# Altium footprint library Filter components.PcbLib: 12 footprints
Each footprint in its own frame and in the unit in brackets; x right, y up, seen from the top. Pads: shape width x height; smd on the part's side, far side on the other; paste and mask are expansions set on the pad; w line width, h text height; cw(c..) or ccw(c..) is an arc to the next point about the centre after c.
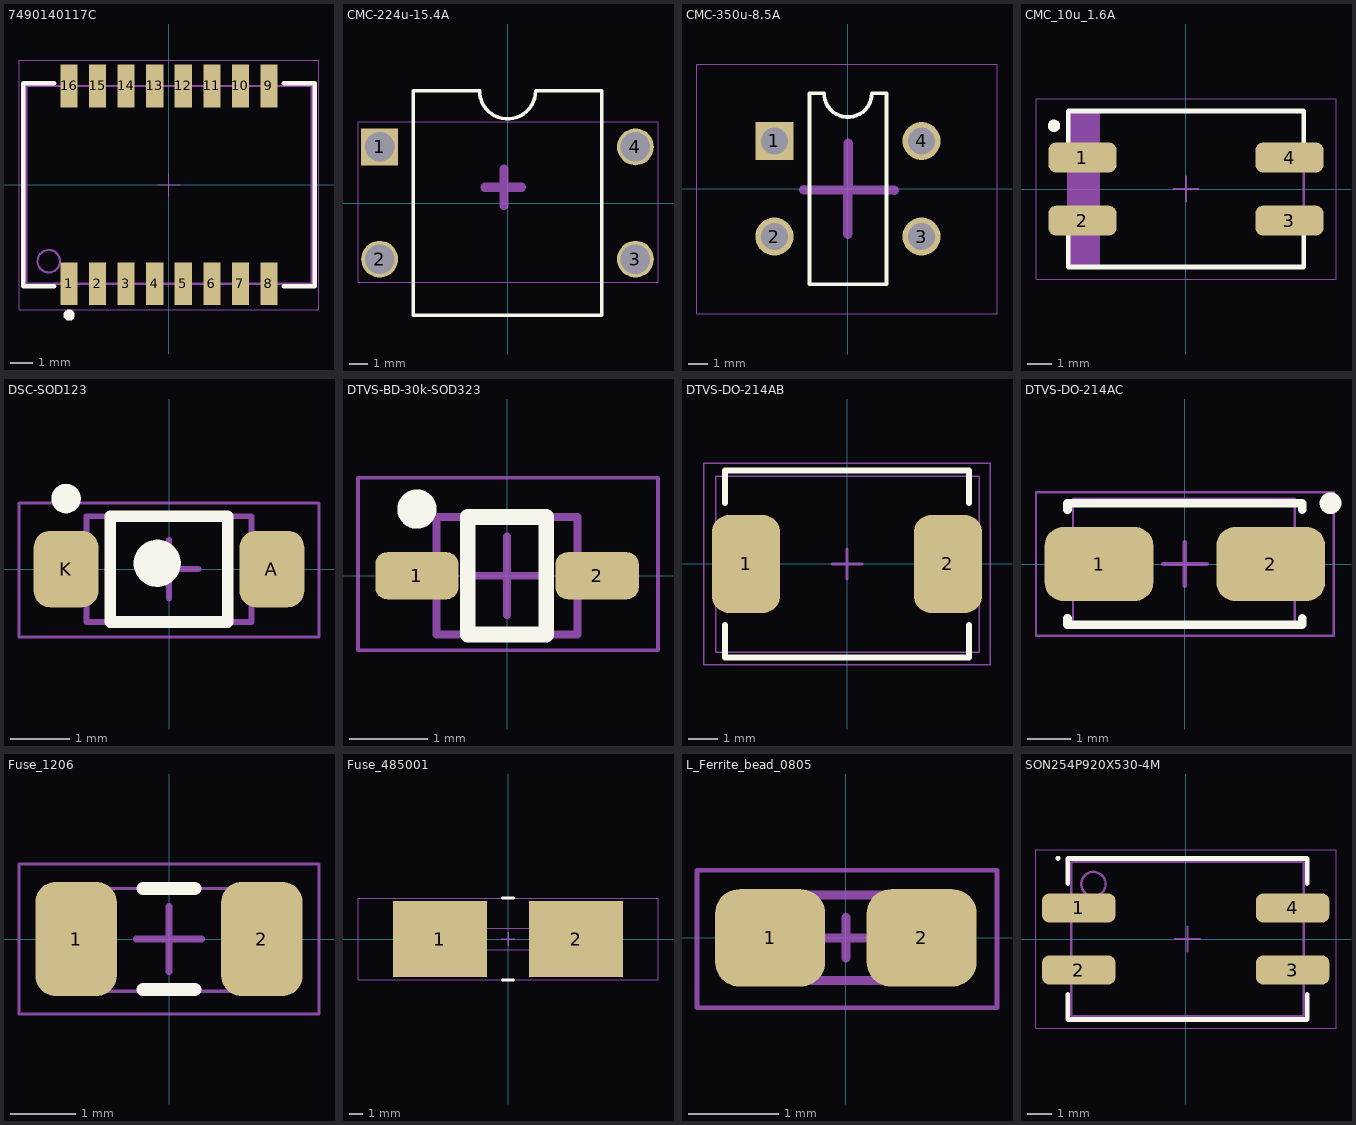
[diagram p0: the footprints below, top view; thin cyan lines are the x and y axes]

## 7490140117C [mm] "SMD LAN Transformers, body 12.7x8.8mm, 16-Leads"
height 6
pads (16):
  rect 0.76x1.9 smd: 1(-4.445,-4.4) 2(-3.175,-4.4) 3(-1.905,-4.4) 4(-0.635,-4.4) 5(0.635,-4.4) 6(1.905,-4.4) 7(3.175,-4.4) 8(4.445,-4.4) 9(4.445,4.4) 10(3.175,4.4) 11(1.905,4.4) 12(0.635,4.4) 13(-0.635,4.4) 14(-1.905,4.4) 15(-3.175,4.4) 16(-4.445,4.4)
Top Overlay:
  circle w0.25: c-4.445,-5.8 r0.125
  lines w0.2: -5.1,-4.525 -6.475,-4.525 -6.475,4.525 -5.1,4.525 ; 5.1,-4.525 6.475,-4.525 6.475,4.525 5.1,4.525
Top Courtyard:
  lines w0.05: -0.5,0 0.5,0 ; 0,-0.5 0,0.5 ; -6.675,-5.55 6.675,-5.55 6.675,5.55 -6.675,5.55 -6.675,-5.55
Top Component Outline:
  circle w0.1: c-5.35,-3.4 r0.5
  lines w0.1: -6.35,-4.4 -6.35,4.4 6.35,4.4 6.35,-4.4 -6.35,-4.4
Top Designator:
  text ".Designator" at -7.498,-0.5 h1.5
3D body "7490140117C.stp": height 5.8, standoff 0, extent -6.35,-4.7 6.35,4.7

## CMC-224u-15.4A [mm]
pads (4):
  rect 2x2 hole 1.6: 1(-6.95,3.05)
  round 2 hole 1.6: 2(-6.95,-3.05) 3(6.95,-3.05) 4(6.95,3.05)
Top Overlay:
  lines w0.2: -5.115,-6.1 -5.115,6.1 -1.525,6.1 ccw(c0,6.1) 1.525,6.1 5.115,6.1 5.115,-6.1 -5.115,-6.1
Top Component Outline:
  lines w0.05: -8.125,-4.3 8.175,-4.3 8.175,4.425 -8.125,4.425 -8.125,-4.3
  lines w0.5: -1.221,0.863 0.754,0.863 ; -0.2,-0.125 -0.2,1.85
  text "'.Designator'" at -3.6,-2.792 h0.7
3D body "TCK-087.stp": height 0.1, standoff -5, extent -7.744,-3.848 7.75,3.848

## CMC-350u-8.5A [mm]
pads (4):
  rect 2x2 hole 1.4: 1(-3.85,2.5)
  round 2 hole 1.4: 2(-3.85,-2.5) 3(3.85,-2.5) 4(3.85,2.5)
Top Overlay:
  lines w0.2: -2.015,-5 2.015,-5 2.015,5 1.25,5 cw(c0,5) -1.25,5 -2.015,5 -2.015,-5
Top Component Outline:
  lines w0.05: -7.9,-6.55 7.8,-6.55 7.8,6.525 -7.9,6.525 -7.9,-6.55
  lines w0.5: -2.317,-0.058 2.433,-0.083 ; 0,-2.375 0.025,2.375
  text "'.Designator'" at -4.275,-5.642 h0.7
3D body "7448229004.stp": height 19.91, standoff -3.49, extent -7.859,-6.5 7.86,6.5

## CMC_10u_1.6A [mm] "Molded Inductor, 2-Leads, Body 9,20x6,00mm, IPC Low Density"
height 5.3
pads (4):
  rrect50% 2.75x1.2 smd: 1(-4.174,1.273) 2(-4.176,-1.273) 3(4.174,-1.273) 4(4.176,1.273)
Top Overlay:
  circle w0.25: c-5.324,2.553 r0.125
  lines w0.2: -4.749,-0.997 -4.749,-3.147 4.751,-3.147 4.751,-0.997 ; -4.749,1.003 -4.749,3.153 4.751,3.153 4.751,1.003
Top Component Outline:
  rectangle: -4.749,-3.147 -3.472,3.153
  lines w0.05: -6.049,-3.647 -6.049,3.653 6.051,3.653 6.051,-3.647 -6.049,-3.647
  lines w0.1: -0.499,0.003 0.501,0.003 ; 0.001,-0.497 0.001,0.503 ; -4.749,-3.147 -4.749,3.153 4.751,3.153 4.751,-3.147 -4.749,-3.147
  text "'.Designator'" at -3.825,-1.417 h0.7
3D body "744226.stp": height 5.01, standoff 0.01, extent -4.599,-2.997 4.601,3.003

## DSC-SOD123 [mm] "SOIC, 2-Leads, Body 1,60x2,69mm, Pitch 1,27mm, IPC Low Density"
height 0.94
pads (2):
  rrect50% 1.1x1.3 smd: A(1.75,0) K(-1.75,0)
Top Overlay:
  circle w0.4: c-0.2,0.1 r0.2
  circle w0.25: c-1.75,1.2 r0.125
  lines w0.2: -1,-0.9 1,-0.9 1,0.9 -1,0.9 -1,-0.9
Top Component Outline:
  lines w0.05: -2.55,-1.15 2.55,-1.15 2.55,1.125 -2.55,1.125 -2.55,-1.15
  lines w0.1: -0.5,0 0.5,0 ; 0,-0.5 0,0.5 ; -1.4,-0.9 1.4,-0.9 1.4,0.9 -1.4,0.9 -1.4,-0.9
  text "'.Designator'" at -2.45,-0.817 h0.7
3D body "MBR0530T3G.stp": height 1.36, standoff 0.01, extent -1.855,-0.8 1.855,0.8

## DTVS-BD-30k-SOD323 [mm] "SOIC, 2-Leads, Body 1,28x1,66mm, Pitch 1,27mm, IPC Low Density"
height 1.17
pads (2):
  rrect50% 1.06x0.6 smd: 1(-1.15,0) 2(1.15,0)
Top Overlay:
  circle w0.25: c-1.15,0.85 r0.125
  lines w0.2: -0.5,-0.75 0.5,-0.75 0.5,0.75 -0.5,0.75 -0.5,-0.75
Top Component Outline:
  lines w0.05: -1.9,-0.95 1.925,-0.95 1.925,1.25 -1.9,1.25 -1.9,-0.95
  lines w0.1: -0.5,0 0.5,0 ; 0,-0.5 0,0.5 ; -0.9,-0.75 0.9,-0.75 0.9,0.75 -0.9,0.75 -0.9,-0.75
  text "'.Designator'" at -1.8,-0.617 h0.7
3D body "ESDLIN1524BJ.stp": height 1.18, standoff 0.01, extent -1.25,-0.64 1.25,0.64

## DTVS-DO-214AB [mm] "Molded Diode, 2-Leads, Body 7,94x5,90mm"
height 2.8
pads (2):
  rrect50% 2.3x3.3 smd: 1(-3.4,0) 2(3.4,0)
Top Overlay:
  lines w0.2: -4.1,-2.05 -4.1,-3.15 4.1,-3.15 4.1,-2.05 ; -4.1,2.05 -4.1,3.15 4.1,3.15 4.1,2.05
Top Component Outline:
  lines w0.05: -4.825,-3.4 4.825,-3.4 4.825,3.4 -4.825,3.4 -4.825,-3.4 ; -4.425,-2.975 -4.425,2.95 4.45,2.95 4.45,-2.975 -4.425,-2.975
  lines w0.1: -0.5,0 0.5,0 ; 0,-0.5 0,0.5
  text "'.Designator'" at -4.325,-2.642 h0.7
3D body "824551301.stp": height 2.9, standoff 0, extent -4.42,-2.95 4.42,2.95

## DTVS-DO-214AC [mm] "Molded Diode, 2-Leads, Body 5,11x2,67mm, IPC Medium Density"
height 2.5
pads (2):
  rrect50% 2.5x1.7 smd: 1(-1.975,0) 2(1.975,0)
Top Overlay:
  circle w0.25: c3.35,1.4 r0.125
  lines w0.2: -2.7,-1.25 -2.7,-1.4 2.7,-1.4 2.7,-1.25 ; -2.7,1.25 -2.7,1.4 2.7,1.4 2.7,1.25
Top Component Outline:
  lines w0.05: -3.425,-1.65 3.425,-1.65 3.425,1.65 -3.425,1.65 -3.425,-1.65 ; -2.575,-1.45 -2.575,1.5 2.525,1.5 2.525,-1.45 -2.575,-1.45
  lines w0.1: -0.5,0 0.5,0 ; 0,-0.5 0,0.5
  text "'.Designator'" at -3.325,-1.317 h0.7
3D body "824501601.stp": height 2.5, standoff 0, extent -2.555,-1.335 2.555,1.335

## Fuse_1206 [mm] "Chip Resistor, 2-Leads, Body 3,20x1,58mm, IPC Medium Density"
height 0.99
pads (2):
  rrect50% 1.25x1.75 smd: 1(-1.425,0) 2(1.425,0)
Top Overlay:
  lines w0.2: -0.4,-0.775 0.4,-0.775 ; -0.4,0.775 0.4,0.775
Top Component Outline:
  lines w0.05: -2.3,-1.15 2.3,-1.15 2.3,1.15 -2.3,1.15 -2.3,-1.15 ; -1.675,-0.8 -1.675,0.775 1.825,0.775 1.825,-0.8 -1.675,-0.8
  lines w0.1: -0.5,0 0.5,0 ; 0,-0.5 0,0.5
  text "'.Designator'" at -2.2,-0.817 h0.7
3D body "0437001.WRA.stp": height 0.86, standoff 0, extent -1.6,-0.791 1.6,0.789

## Fuse_485001 [mm]
height 0.99
pads (2):
  rect 6.9x5.6 smd: 1(-5,0) 2(5,0)
Top Overlay:
  lines w0.2: -0.4,-3 0.4,-3 ; -0.4,3 0.4,3
Top Component Outline:
  lines w0.05: -11,-3 11,-3 11,3 -11,3 -11,-3 ; -1.675,-0.8 1.825,-0.8 1.825,0.775 -1.675,0.775 -1.675,-0.8
  lines w0.1: -0.5,0 0.5,0 ; 0,-0.5 0,0.5
  text "'.Designator'" at -2.2,-0.817 h0.7
3D body "485001.stp": height 4.5, standoff 0, extent -6.05,-2.25 6.05,2.25

## L_Ferrite_bead_0805 [mm] "Chip Inductor, 2-Leads, Body 1,60x0,80mm, IPC Low Density"
height 0.65
pads (2):
  rrect50% 1.22x1.08 smd: 1(-0.84,0) 2(0.84,0)
Top Component Outline:
  lines w0.05: -1.65,-0.775 1.675,-0.775 1.675,0.75 -1.65,0.75 -1.65,-0.775
  lines w0.1: -0.225,0 0.2,0 ; 0,-0.225 0,0.225 ; -0.875,-0.475 0.875,-0.475 0.875,0.475 -0.875,0.475 -0.875,-0.475
  text "'.Designator'" at -1.55,-0.442 h0.7
3D body: height 0.65, standoff 0, extent 0.475,-0.475 0.875,0.475
3D body: height 0.65, standoff 0, extent -0.875,-0.475 -0.475,0.475
3D body: height 0.65, standoff 0, extent -0.475,-0.475 0.475,0.475

## SON254P920X530-4M [mm] "SON, 4-Leads, Body 6,00x9,20mm, Pitch 2,54mm, IPC Low Density"
height 5.3
pads (4):
  rrect50% 3x1.2 smd: 1(-4.375,1.27) 2(-4.375,-1.27) 3(4.375,-1.27) 4(4.375,1.27)
Top Overlay:
  circle w0.1: c-5.225,3.3 r0.05
  lines w0.2: -4.825,-2.27 -4.825,-3.3 4.975,-3.3 4.975,-2.27 ; -4.825,2.27 -4.825,3.3 4.975,3.3 4.975,2.27
Top Component Outline:
  circle w0.1: c-3.775,2.25 r0.5
  lines w0.05: -6.125,-3.65 6.15,-3.65 6.15,3.65 -6.125,3.65 -6.125,-3.65
  lines w0.1: -0.425,0 0.575,0 ; 0.075,-0.5 0.075,0.5 ; -4.675,-3.15 4.825,-3.15 4.825,3.15 -4.675,3.15 -4.675,-3.15
  text "'.Designator'" at -4.125,-2.017 h0.7
3D body "744226.stp": height 5.01, standoff 0.01, extent -4.525,-3 4.675,3